# EAGLE library part MSTBV8 (library Copy of CON_PHOENIX_508)
PHOENIX
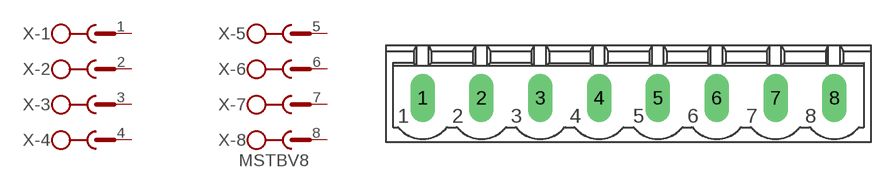
[diagram p57: symbol with the pads of MSTBV8; footprint MSTBV8]

Designator prefix X; gates -1=SK -2=SK -3=SK -4=SK -5=SK -6=SK -7=SK -8=SKV

## MSTBV8  [MSTBV8]
1  -1:1  pas
2  -2:1  pas
3  -3:1  pas
4  -4:1  pas
5  -5:1  pas
6  -6:1  pas
7  -7:1  pas
8  -8:1  pas

## Footprint MSTBV8 (pad centres in mm)
PHOENIX
drill 1.397 long: 1 -17.78,0; 2 -12.7,0; 3 -7.62,0; 4 -2.54,0; 5 2.54,0; 6 7.62,0; 7 12.7,0; 8 17.78,0